# EAGLE library part TUSB3410 (library slom)
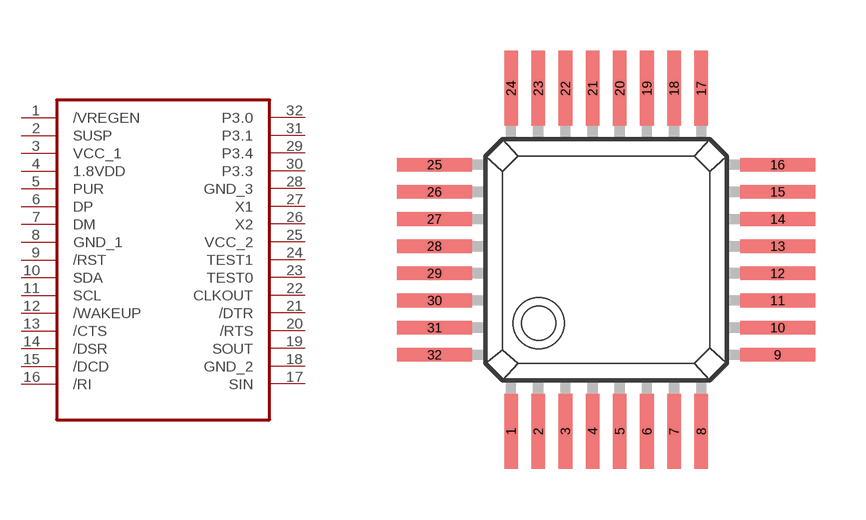
[diagram p6: symbol with the pads of LQFP32; footprint LQFP32]

Designator prefix -

## TUSB3410  [LQFP32]
1  /VREGEN
2  SUSP
3  VCC_1  pwr
4  1.8VDD  pwr
5  PUR
6  DP
7  DM
8  GND_1
9  /RST
10  SDA
11  SCL
12  /WAKEUP
13  /CTS
14  /DSR
15  /DCD
16  /RI
17  SIN
18  GND_2  pwr
19  SOUT
20  /RTS
21  /DTR
22  CLKOUT
23  TEST0
24  TEST1
25  VCC_2  pwr
26  X2
27  X1
28  GND_3  pwr
29  P3.4
30  P3.3
31  P3.1
32  P3.0

## Footprint LQFP32 (pad centres in mm)
smd 0.4 x 2.2: 1 -2.97,-5.12; 2 -2.17,-5.12; 3 -1.37,-5.12; 4 -0.57,-5.12; 5 0.23,-5.12; 6 1.03,-5.12; 7 1.83,-5.12; 8 2.63,-5.12; 17 2.63,4.98; 18 1.83,4.98; 19 1.03,4.98; 20 0.23,4.98; 21 -0.57,4.98; 22 -1.37,4.98; 23 -2.17,4.98; 24 -2.97,4.98
smd 2.2 x 0.4: 9 4.88,-2.87; 10 4.88,-2.07; 11 4.88,-1.27; 12 4.88,-0.47; 13 4.88,0.33; 14 4.88,1.13; 15 4.88,1.93; 16 4.88,2.73; 25 -5.22,2.73; 26 -5.22,1.93; 27 -5.22,1.13; 28 -5.22,0.33; 29 -5.22,-0.47; 30 -5.22,-1.27; 31 -5.22,-2.07; 32 -5.22,-2.87